# Altium schematic symbol library TPS54331D.SchLib: 1 symbol
Pins are listed as number, name and electrical type; pins without a type are passive.

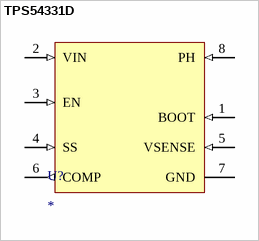
[diagram p0: symbol TPS54331D]

## TPS54331D
designator U?
MF: {'manufacturer': u'Texas Instruments'}; MP: TPS54331D; Price: None; Value: *; Package: None; Availability: Unavailable
footprint SOIC127P599X175-8N
pins: 1 BOOT (in), 2 VIN (in), 3 EN (in), 4 SS (in), 5 VSENSE (in), 6 COMP (out), 7 GND (power), 8 PH (in)